# Altium schematic symbol library Added schematic library.SchLib: 19 symbols
Pins are listed as number, name and electrical type; pins without a type are passive.

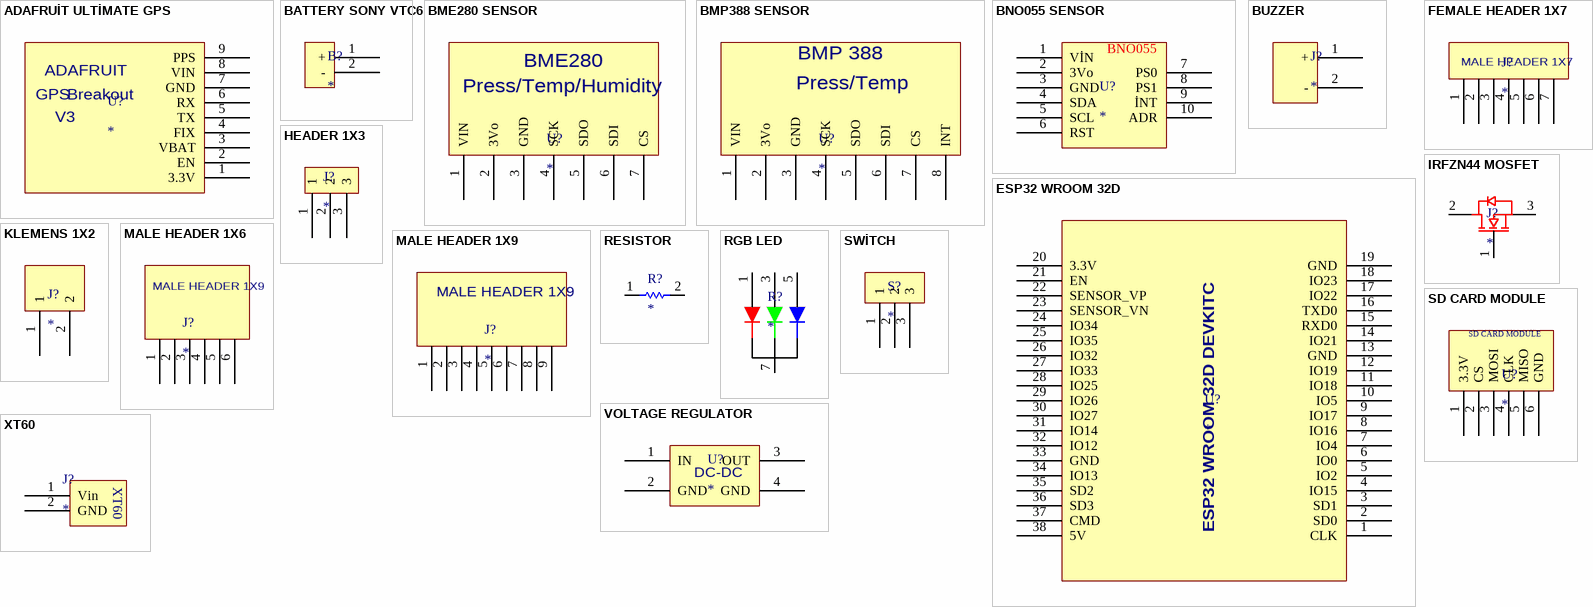
[diagram p0: symbols ADAFRUİT ULTİMATE GPS to XT60]

## ADAFRUİT ULTİMATE GPS
designator U?
footprint ADAFRUİT ULTİMATE GPS SENSOR
pins: 1 3.3V, 2 EN, 3 VBAT, 4 FIX, 5 TX, 6 RX, 7 GND, 8 VIN, 9 PPS
text: ADAFRUIT; GPS; Breakout; V3

## BATTERY SONY VTC6
designator B?
footprint 3s SONY VTC 6 BATTERY
pins: 1 +, 2 -

## BME280 SENSOR
designator U?
footprint BME280 SENSOR
pins: 1 VIN, 2 3Vo, 3 GND, 4 SCK, 5 SDO, 6 SDI, 7 CS
text: BME280; Press/Temp/Humidity

## BMP388 SENSOR
designator U?
footprint BMP388 SENSOR
pins: 1 VIN, 2 3Vo, 3 GND, 4 SCK, 5 SDO, 6 SDI, 7 CS, 8 INT
text: BMP 388; Press/Temp

## BNO055 SENSOR
designator U?
footprint BNO055 SENSOR
pins: 1 VİN, 2 3Vo, 3 GND, 4 SDA, 5 SCL, 6 RST, 7 PS0, 8 PS1, 9 İNT, 10 ADR
text: BNO055

## BUZZER
designator J?
footprint BUZZER
pins: 1 +, 2 -

## ESP32 WROOM 32D
designator U?
footprint ESP32 WROOM 32D
pins: 1 CLK, 2 SD0, 3 SD1, 4 IO15, 5 IO2, 6 IO0, 7 IO4, 8 IO16, 9 IO17, 10 IO5, 11 IO18, 12 IO19, 13 GND, 14 IO21, 15 RXD0, 16 TXD0, 17 IO22, 18 IO23, 19 GND, 20 3.3V, 21 EN, 22 SENSOR_VP, 23 SENSOR_VN, 24 IO34, 25 IO35, 26 IO32, 27 IO33, 28 IO25, 29 IO26, 30 IO27, 31 IO14, 32 IO12, 33 GND, 34 IO13, 35 SD2, 36 SD3, 37 CMD, 38 5V
text: ESP32 WROOM 32D DEVKITC

## FEMALE HEADER 1X7
designator J?
footprint MALE HEADER 1X7
pins: 1, 2, 3, 4, 5, 6, 7
text: MALE HEADER 1X7

## HEADER 1X3
designator J?
footprint MALE HEADER 1X3
pins: 1, 2, 3

## IRFZN44 MOSFET
designator J?
footprint IRFZ44 MOSFET
pins: 1 gate, 2 drain, 3 source

## KLEMENS 1X2
designator J?
footprint Klemens 1x2 - 3.5mm
pins: 1, 2

## MALE HEADER 1X6
designator J?
footprint MALE HEADER 1X6
pins: 1, 2, 3, 4, 5, 6
text: MALE HEADER 1X9

## MALE HEADER 1X9
designator J?
footprint MALE HEADER 1X9
pins: 1, 2, 3, 4, 5, 6, 7, 8, 9

## RESISTOR
designator R?
footprint RESISTOR
pins: 1, 2

## RGB LED
designator R?
footprint RGB LED
pins: 1 0, 3, 5, 7 GND, ?1, ?2, ?3

## SD CARD MODULE
designator U?
footprint SD CARD MODULE
pins: 1 3.3V, 2 CS, 3 MOSI, 4 CLK, 5 MISO, 6 GND

## SWİTCH
designator S?
footprint SWİTCH
pins: 1, 2, 3

## VOLTAGE REGULATOR
designator U?
footprint VOLTAGE REGULATOR
pins: 1 IN, 2 GND, 3 OUT, 4 GND
text: DC-DC

## XT60
designator J?
footprint XT60
pins: 1 Vin, 2 GND